# Altium footprint library NE5532+TDA2030A.PcbLib: 15 footprints
Each footprint in its own frame and in the unit in brackets; x right, y up, seen from the top. Pads: shape width x height; smd on the part's side, far side on the other; paste and mask are expansions set on the pad; w line width, h text height; cw(c..) or ccw(c..) is an arc to the next point about the centre after c.
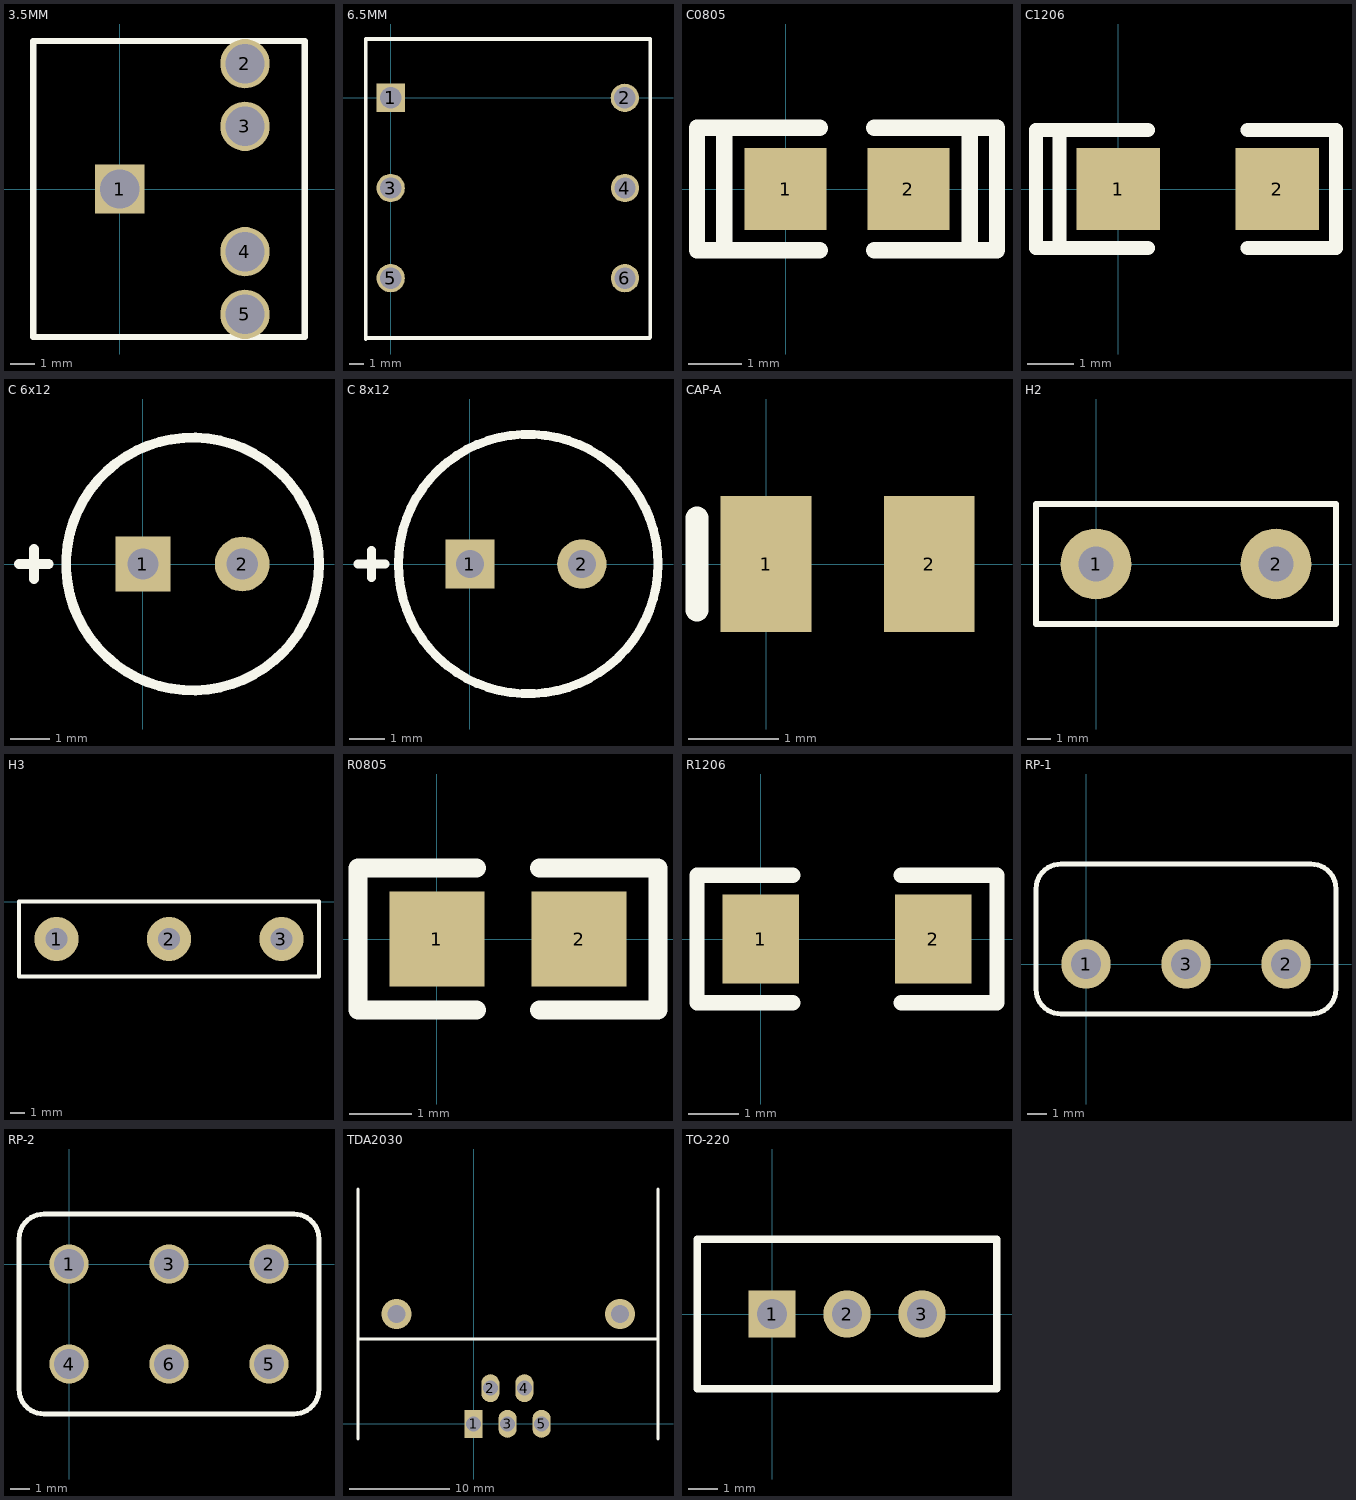
[diagram p0: the footprints below, top view; thin cyan lines are the x and y axes]

## 3.5MM [mm]
pads (5):
  rect 2x2 hole 1.6: 1(0,0)
  round 2 hole 1.6: 2(5.08,5.08) 3(5.08,2.54) 4(5.08,-2.54) 5(5.08,-5.08)
Top Overlay:
  lines w0.254: -3.5,-6 7.5,-6 7.5,6 -3.5,6 -3.5,-6

## 6.5MM [mm]
pads (6):
  rect 2x2 hole 1.5: 1(0,0)
  round 2 hole 1.5: 2(16.5,0) 3(0,-6.35) 4(16.51,-6.35) 5(0,-12.7) 6(16.51,-12.7)
Top Overlay:
  lines w0.254: -1.75,-16.99 -1.75,-12.7 -1.75,4.147 -1.753,4.15 18.288,4.15 18.288,-16.878 ; -1.737,-16.916 18.25,-16.916

## C0805 [mil]
pads (2):
  rect 60x60 smd: 1(0,0) 2(90,0)
Top Overlay:
  lines w12: -45,-45 -45,45 ; 25,-45 -50,-45 -65,-45 -65,45 -50,45 25,45 ; 65,-45 140,-45 155,-45 155,45 140,45 65,45 ; 135,-45 135,45

## C1206 [mil]
pads (2):
  rect 70.87x70 smd: 1(0,0) 2(135,0)
Top Overlay:
  lines w12: 25,-50 -50,-50 ; 25,50 -50,50 ; 110,-50 185,-50 185,50 110,50 ; -50,-50 -70,-50 -70,50 -50,50 ; -50,-50 -50,50

## C 6x12 [mm]
pads (2):
  rect 1.4x1.4 hole 0.8: 1(0,0)
  round 1.4 hole 0.8: 2(2.54,0)
Top Overlay:
  circle w0.254: c1.27,0 r3.238
  lines w0.254: -3.175,0 -2.413,0 ; -2.794,-0.381 -2.794,0.381

## C 8x12 [mm]
pads (2):
  rect 1.4x1.4 hole 0.8: 1(0,0)
  round 1.4 hole 0.8: 2(3.175,0)
Top Overlay:
  circle w0.254: c1.651,0 r3.683
  lines w0.254: -3.175,0 -2.413,0 ; -2.794,-0.381 -2.794,0.381

## CAP-A [mm]
pads (2):
  rect 1x1.5 smd: 1(0,0) 2(1.8,0)
Top Overlay:
  lines w0.254: -0.762,-0.508 -0.762,0.508

## H2 [mm]
pads (2):
  round 3 hole 1.5: 1(0,0) 2(7.62,0)
Top Overlay:
  lines w0.254: -2.54,-2.54 -2.54,2.54 10.16,2.54 10.16,-2.54 -2.54,-2.54

## H3 [mm]
pads (3):
  round 3 hole 1.5: 1(5.08,-2.54) 2(12.7,-2.54) 3(20.32,-2.54)
Top Overlay:
  lines w0.254: 2.54,-5.08 22.86,-5.08 22.86,0 2.54,0 2.54,-5.08

## R0805 [mil]
pads (2):
  rect 60x60 smd: 1(0,0) 2(90,0)
Top Overlay:
  lines w12: 25,-45 -50,-45 -50,45 25,45 ; 65,-45 140,-45 140,45 65,45

## R1206 [mil]
pads (2):
  rect 60x70 smd: 1(0,0) 2(135,0)
Top Overlay:
  lines w12: 25,-50 -50,-50 -50,50 25,50 ; 110,-50 185,-50 185,50 110,50

## RP-1 [mm]
pads (3):
  round 2.5 hole 1.5: 1(0,0) 2(10.16,0) 3(5.08,0)
Top Overlay:
  circle w0.254: c-2.54,0 r0
  circle w0.254: c12.7,0 r0
  circle w0.254: c12.7,0 r0
  circle w0.254: c-2.54,0 r0
  circle w0.254: c12.7,0 r0
  circle w0.254: c12.7,-1.27 r0
  circle w0.254: c12.7,0 r0
  lines w0.254: -2.54,-1.27 ccw(c-1.27,-1.27) -1.27,-2.54 11.43,-2.54 ccw(c11.43,-1.27) 12.7,-1.27 12.7,0 12.7,3.81 ccw(c11.43,3.81) 11.43,5.08 -1.27,5.08 ccw(c-1.27,3.81) -2.54,3.81 -2.54,0 -2.54,-1.27

## RP-2 [mm]
pads (6):
  round 2 hole 1.5: 1(0,0) 2(10.16,0) 3(5.08,0) 4(0,-5.08) 5(10.16,-5.08) 6(5.08,-5.08)
Top Overlay:
  circle w0.254: c-2.54,-5.08 r0
  circle w0.254: c11.43,2.54 r0
  lines w0.254: -2.54,-6.35 ccw(c-1.27,-6.35) -1.27,-7.62 11.43,-7.62 ccw(c11.43,-6.35) 12.7,-6.35 12.7,1.27 ccw(c11.43,1.27) 11.43,2.54 -1.27,2.54 ccw(c-1.27,1.27) -2.54,1.27 -2.54,-5.08 -2.54,-6.35

## TDA2030 [mm]
pads (5):
  rect 1.8x2.8 hole 1.5: 1(0,0)
  oval 1.8x2.8 hole 1.5: 2(1.68,3.556) 3(3.4,0) 4(5.08,3.556) 5(6.8,0)
via 14.63,10.998 diameter 3 hole 1.8
via -7.722,10.998 diameter 3 hole 1.8
Top Overlay:
  lines w0.254: -11.557,-1.524 -11.557,10.976 -11.557,23.476 ; -11.524,8.476 11.176,8.476 18.41,8.476 ; 18.443,-1.524 18.443,23.476

## TO-220 [mm]
pads (3):
  rect 1.6x1.6 hole 1: 1(0,0)
  round 1.6 hole 1: 2(2.54,0) 3(5.08,0)
Top Overlay:
  lines w0.254: -2.54,-2.54 7.62,-2.54 7.62,2.54 -2.54,2.54 -2.54,-2.54